# Altium footprint library MURATA_LQW21FT2R0M0HL_0.PcbLib: 1 footprints
Each footprint in its own frame and in the unit in brackets; x right, y up, seen from the top. Pads: shape width x height; smd on the part's side, far side on the other; paste and mask are expansions set on the pad; w line width, h text height; cw(c..) or ccw(c..) is an arc to the next point about the centre after c.
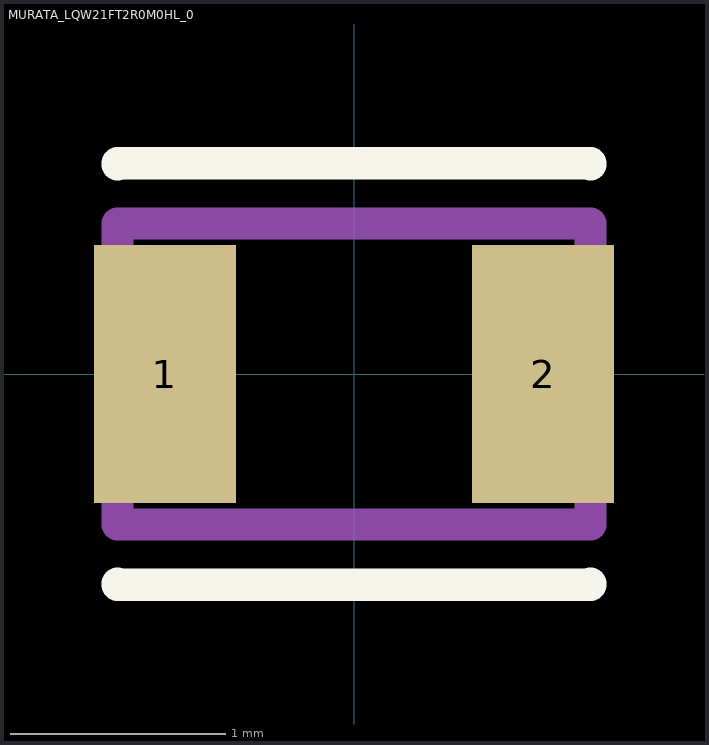
[diagram p0: the footprint, top view; thin cyan lines are the x and y axes]

## MURATA_LQW21FT2R0M0HL_0 [mm]
pads (2):
  rect 0.66x1.2 smd: 1(-0.88,0) 2(0.88,0)
Top Overlay:
  lines w0.15: -1.1,-0.975 -1.1,-0.98 1.1,-0.98 1.1,-0.975 ; -1.1,0.975 -1.1,0.98 1.1,0.98 1.1,0.975
Mechanical 13:
  lines w0.15: -1.1,-0.7 1.1,-0.7 1.1,0.7 -1.1,0.7 -1.1,-0.7